# EAGLE library part 615008150121 (library Eagle_WR-MJ (rev23b))
WR-MJ Modular Jack THT Horizontal Mid-Mount Plastic Tab Up with LED Y/G Kind Properties yellow-green General Information Operating Temperature:-40 up to +85 °C Compliance: Lead free / RoHS Electrical Properties Working Voltage:125V (AC) Withstanding Voltage:1000V (AC) Contact Resistance:20mΩ RISO:1000 MΩ Material Properties Insulator MateriaL:LCP Insulator Flammability Rating:UL94 V-0 Color:Black Contact Material Copper Alloy Contact Plating:Gold Contact Type:Stamped Packaging Properties Packaging:Tray <https://www.we-online.com/catalog/media/o135224v209%20Family_WR-MJ-615008150121.jpg> Details see: https://www.we-online.com/catalog/en/MJ_THT_HORIZONTAL_MID_MOUNT_PLASTIC_TAB_UP_W_LED/ Updated by Ella Wu 2021-12-08 2021 (C) Würth Elektronik
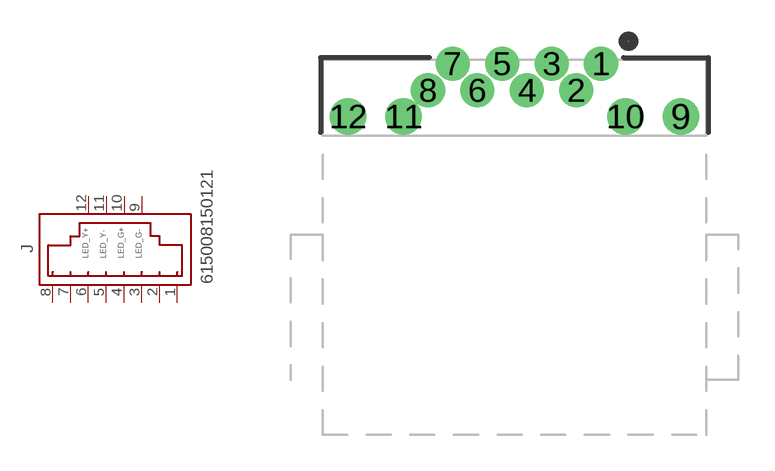
[diagram p49: symbol with the pads of 615008150121; footprint 615008150121]

Designator prefix J

## 615008150121 (DATASHEET-URL: https://www.we-online.com/redexpert/spec/615008150121?ae; LED: yellow-green; MOUNT: THT; PART-NUMBER: 615008150121; TYPE: Right Angle; VALUE: 615008150121; XPXC: 8P8C)  [615008150121]
1  1  pas
2  2  pas
3  3  pas
4  4  pas
5  5  pas
6  6  pas
7  7  pas
8  8  pas
9  G-  pas
10  G+  pas
11  Y-  pas
12  Y+  pas

## Footprint 615008150121 (pad centres in mm)
WR-MJ Modular Jack THT Horizontal Mid-Mount Plastic Tab Up with LED Y/G
drill 0.9 pad 1.2: 1 3.57,7.575; 2 2.55,6.475; 3 1.53,7.575; 4 0.51,6.475; 5 -0.51,7.575; 6 -1.53,6.475; 7 -2.55,7.575; 8 -3.57,6.475
drill 1 pad 1.3: 9 6.86,5.395; 10 4.57,5.395; 11 -4.57,5.395; 12 -6.86,5.395